# Altium integrated library BMI088.IntLib: 1 symbol
Pins are listed as number, name and electrical type; pins without a type are passive.

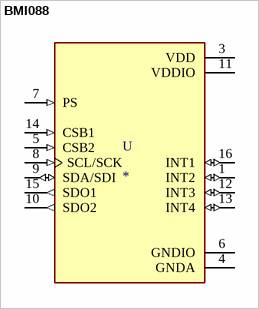
[diagram p0: symbol BMI088]

## BMI088
designator U
Accelerometer, Gyroscope, 6 Axis Sensor IÂ²C, SPI Output; MP: BMI088; MF: Bosch Sensortec; Availability: Unavailable; Price: None; Value: *; SnapEDA_Link: https://www.snapeda.com/parts/BMI088/Bosch%20Sensortec/view-part/2774026/?ref=snap; Package: VFLGA-16 Bosch Sensortec
footprint PQFN50P450X300X100-16N
pins: 1 INT2 (io), 3 VDD (power), 4 GNDA (power), 5 CSB2 (in), 6 GNDIO (power), 7 PS (in), 8 SCL/SCK (in), 9 SDA/SDI (io), 10 SDO2 (out), 11 VDDIO (power), 12 INT3 (io), 13 INT4 (io), 14 CSB1 (in), 15 SDO1 (out), 16 INT1 (io)